# Altium schematic symbol library DIODE,Zener,5.1V,500mW,Thru.Schlib: 1 symbol
Pins are listed as number, name and electrical type; pins without a type are passive.

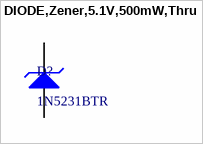
[diagram p0: symbol DIODE,Zener,5.1V,500mW,Thru]

## DIODE,Zener,5.1V,500mW,Thru
designator D?, comment 1N5231BTR
Zener Diode 5.1V 500mW ±5% Through Hole DO-35
pins: 1 K, 2 A